# Altium schematic symbol library SMD Amplifiers.SchLib: 2 symbols
Pins are listed as number, name and electrical type; pins without a type are passive.

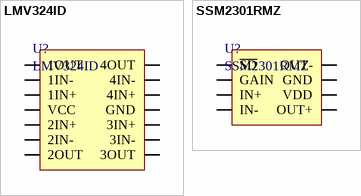
[diagram p0: symbols LMV324ID to SSM2301RMZ]

## LMV324ID
designator U?
Quad, Low-Voltage Rail-To-Rail Output Operational Amplifier, Texas Instruments
footprint SOIC-14 (SOIC, 14-Leads, Body 8.7x3.9mm, Pitch 1.27mm, IPC Low Density)
pins: 1 1OUT, 2 1IN-, 3 1IN+, 4 VCC, 5 2IN+, 6 2IN-, 7 2OUT, 8 3OUT, 9 3IN-, 10 3IN+, 11 GND, 12 4IN+, 13 4IN-, 14 4OUT

## SSM2301RMZ
designator U?
Audio Amplifier, 1.4W, Class D, Analog Devices
footprint MSOP-8 (Mini Small Outline, MSOP-8 Leads; Body Width 3 mm; Pitch 0.65 mm)
pins: 1 ~{SD}, 2 GAIN, 3 IN+, 4 IN-, 5 OUT+, 6 VDD, 7 GND, 8 OUT-